# EAGLE library part LT5512EUF#PBF (library LT5512EUF#PBF)
LT5512EUF#PBF, Downconverter & Mixer 2000MHz 4.5 5.25 V 16-Pin QFN EP Source: Datasheet <http://uk.rs-online.com/web/p/products/5060861P>
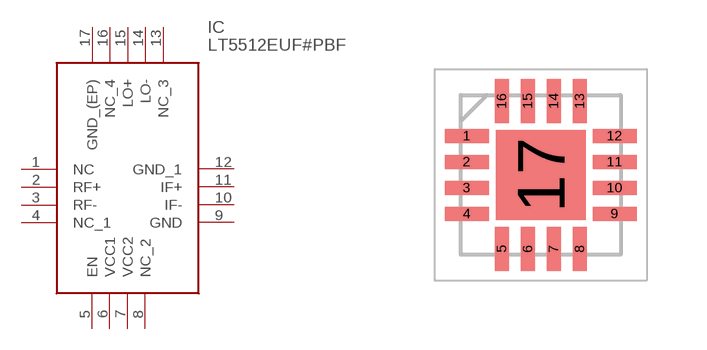
[diagram p0: symbol with the pads of QFN65P400X400X80-17N; footprint QFN65P400X400X80-17N]

Designator prefix IC

## LT5512EUF#PBF (Description: LT5512EUF#PBF, Downconverter & Mixer 2000MHz 4.5 5.25 V 16-Pin QFN EP; Height: 0.8mm; Manufacturer_Name: Linear Technology; Manufacturer_Part_Number: LT5512EUF#PBF; RS_Part_Number: 5060861P; RS_Price-Stock: http://uk.rs-online.com/web/p/products/5060861P)  [QFN65P400X400X80-17N]
1  NC  nc
2  RF+  in
3  RF-  in
4  NC_1
5  EN
6  VCC1  pwr
7  VCC2  pwr
8  NC_2
9  GND  pwr
10  IF-  out
11  IF+  out
12  GND_1  pwr
13  NC_3
14  LO-  in
15  LO+  in
16  NC_4
17  GND_(EP)  pwr

## Footprint QFN65P400X400X80-17N (pad centres in mm)
UF(QFN)_1
smd 1.1 x 0.35: 1 -1.85,0.975; 2 -1.85,0.325; 3 -1.85,-0.325; 4 -1.85,-0.975; 9 1.85,-0.975; 10 1.85,-0.325; 11 1.85,0.325; 12 1.85,0.975
smd 0.35 x 1.1: 5 -0.975,-1.85; 6 -0.325,-1.85; 7 0.325,-1.85; 8 0.975,-1.85; 13 0.975,1.85; 14 0.325,1.85; 15 -0.325,1.85; 16 -0.975,1.85
smd 2.25 x 2.25: 17 0,0